# Altium schematic symbol library ERJ-3EKF8250V.SchLib: 1 symbol
Pins are listed as number, name and electrical type; pins without a type are passive.

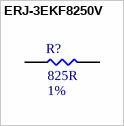
[diagram p0: symbol ERJ-3EKF8250V]

## ERJ-3EKF8250V
designator R?, comment Resistance: 825R  Tolerance: 1%  (hidden comment: 825R, 1%)
RES SMD 825 OHM 1% 1/10W 0603; MFR: Panasonic Electronic Components; Footprint: RES0603; Package: 0603; ComponentLink1Description: Datasheet; Power Rating: 1/10W; Supplier 1: Digi-Key; Supplier Part Number 1: P825HCT-ND
footprint RES0603 (Generic 0603)
pins: 1, 2